# EAGLE library part 4082BP (library EW_IC_74_Logic)
4-input AND. Category: Gates Manufacturer: Generic
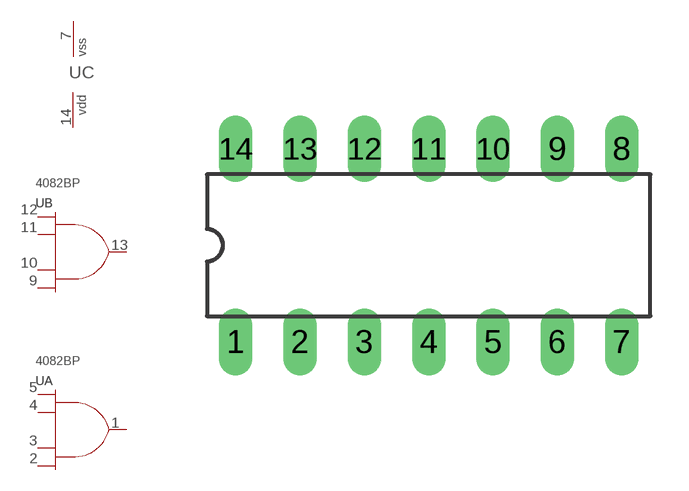
[diagram p115: symbol with the pads of DIL14; footprint DIL14]

Designator prefix U; gates A=AND_4 B=AND_4 C=PWRN_1

## 4082BP  [DIL14]
1  A:Y  pwr
2  A:D  pwr
3  A:C  pwr
4  A:B  pwr
5  A:A  pwr
7  C:VSS  pwr
9  B:D  pwr
10  B:C  pwr
11  B:B  pwr
12  B:A  pwr
13  B:Y  pwr
14  C:VDD  pwr

## Footprint DIL14 (pad centres in mm)
SOCKET Dual In Line
drill 0.813 long: 1 -7.62,-3.81; 2 -5.08,-3.81; 3 -2.54,-3.81; 4 0,-3.81; 5 2.54,-3.81; 6 5.08,-3.81; 7 7.62,-3.81; 8 7.62,3.81; 9 5.08,3.81; 10 2.54,3.81; 11 0,3.81; 12 -2.54,3.81; 13 -5.08,3.81; 14 -7.62,3.81